# EAGLE library part ARDUINO_NANO_SOCKET (library arduino-sockets)
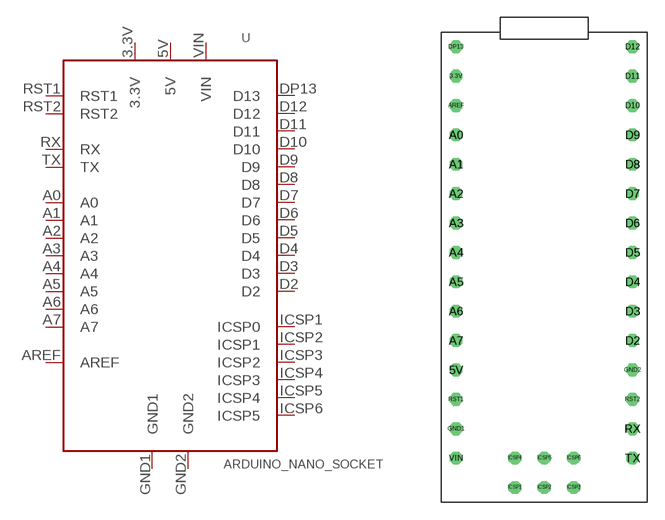
[diagram p0: symbol with the pads of SOCKET_NANO; footprint SOCKET_NANO]

Designator prefix -

## ARDUINO_NANO_SOCKET  [SOCKET_NANO]
3.3V  3.3V  pwr
5V  5V  pwr
A0  A0
A1  A1
A2  A2
A3  A3
A4  A4
A5  A5
A6  A6
A7  A7
AREF  AREF
D2  D2
D3  D3
D4  D4
D5  D5
D6  D6
D7  D7
D8  D8
D9  D9
D10  D10
D11  D11
D12  D12
DP13  D13
GND1  GND1  pwr
GND2  GND2  pwr
ICSP1  ICSP0
ICSP2  ICSP1
ICSP3  ICSP2
ICSP4  ICSP3
ICSP5  ICSP4
ICSP6  ICSP5
RST1  RST1
RST2  RST2
RX  RX
TX  TX
VIN  VIN  pwr

## Footprint SOCKET_NANO (pad centres in mm)
drill 0.6 octagon: 3.3V -7.62,10.16; 5V -7.62,-15.24; A0 -7.62,5.08; A1 -7.62,2.54; A2 -7.62,0; A3 -7.62,-2.54; A4 -7.62,-5.08; A5 -7.62,-7.62; A6 -7.62,-10.16; A7 -7.62,-12.7; AREF -7.62,7.62; D2 7.62,-12.7; D3 7.62,-10.16; D4 7.62,-7.62; D5 7.62,-5.08; D6 7.62,-2.54; D7 7.62,0; D8 7.62,2.54; D9 7.62,5.08; D10 7.62,7.62; D11 7.62,10.16; D12 7.62,12.7; DP13 -7.62,12.7; GND1 -7.62,-20.32; GND2 7.62,-15.24; ICSP1 -2.54,-25.4; ICSP2 0,-25.4; ICSP3 2.54,-25.4; ICSP4 -2.54,-22.86; ICSP5 0,-22.86; ICSP6 2.54,-22.86; RST1 -7.62,-17.78; RST2 7.62,-17.78; RX 7.62,-20.32; TX 7.62,-22.86; VIN -7.62,-22.86